# EAGLE library part XCFXXS (library be_xilinx)
edited: Mario Blunk
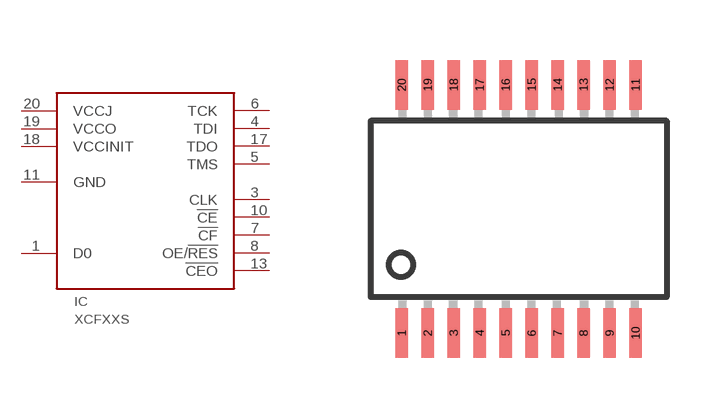
[diagram p2: symbol with the pads of S_TSSOP20; footprint S_TSSOP20]

Designator prefix IC

## XCFXXSVOG20C (BOM: YES; COMMISSIONED: 2015-01-28; PART_CODE_BEL: IC_PAC_S_TSSOP20_VAL_XCF04SVOG20C)  [S_TSSOP20]
1  D0  out
3  CLK  in
4  TDI  in
5  TMS  in
6  TCK  in
7  !CF  oc
8  OE/!RES
10  !CE  in
11  GND  pwr
13  !CEO  out
17  TDO  out
18  VCCINIT  pwr
19  VCCO  pwr
20  VCCJ  pwr

## Footprint S_TSSOP20 (pad centres in mm)
edited: Mario Blunk date: 2015-03-23
smd 0.305 x 1.245: 1 -2.925,-3.102; 2 -2.275,-3.102; 3 -1.625,-3.102; 4 -0.975,-3.102; 5 -0.325,-3.102; 6 0.325,-3.102; 7 0.975,-3.102; 8 1.625,-3.102; 9 2.275,-3.102; 10 2.925,-3.102; 11 2.925,3.102; 12 2.275,3.102; 13 1.625,3.102; 14 0.975,3.102; 15 0.325,3.102; 16 -0.325,3.102; 17 -0.975,3.102; 18 -1.625,3.102; 19 -2.275,3.102; 20 -2.925,3.102